# Altium schematic symbol library 150044M155260.Schlib: 1 symbol
Pins are listed as number, name and electrical type; pins without a type are passive.

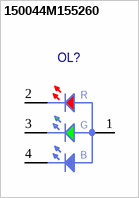
[diagram p0: symbol 150044M155260]

## 150044M155260
designator OL?  (value not drawn)
Right Angle Tricolor (RGB) Surface Mount LED
pins: 1 AA, 2 CR, 3 CG, 4 CB
text: R; G; B